# EAGLE library part LORA_RFM95_ADAPTER (library 111_LORA)
ESP8266 Adapter for ESP8266-03, ESP8266-04, ESP8266-07, ESP8266-08, ESP8266-12 and similar. (c) by Bartosz Batorek obi--wan@wp.pl
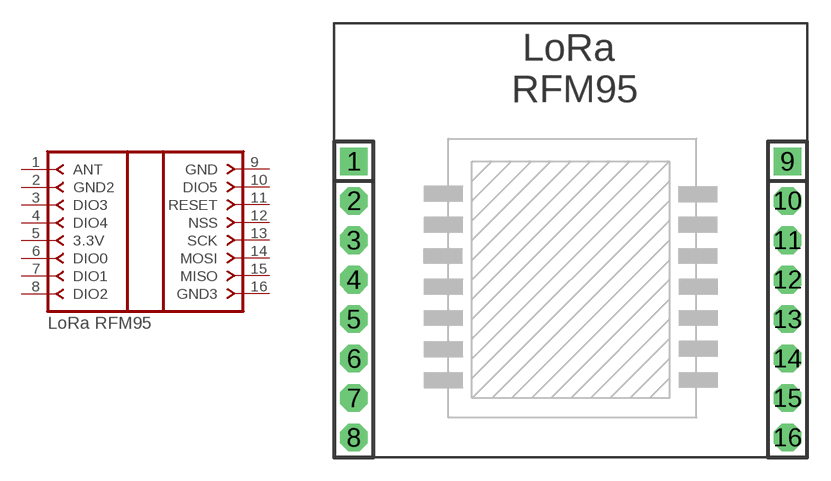
[diagram p0: symbol with the pads of LORA_RFM95_ADAPTER; footprint LORA_RFM95_ADAPTER]

Designator prefix ESP_

## LORA_RFM95_ADAPTERLORA_RFM95W  [LORA_RFM95_ADAPTER]
1  ANT  pas
2  GND2  pas
3  DIO3  pas
4  DIO4  pas
5  3.3V  pas
6  DIO0  pas
7  DIO1  pas
8  DIO2  pas
9  GND  pas
10  DIO5  pas
11  RESET  pas
12  NSS  pas
13  SCK  pas
14  MOSI  pas
15  MISO  pas
16  GND3  pas

## Footprint LORA_RFM95_ADAPTER (pad centres in mm)
ESP8266 Adapter SIP Header - 0.1", 32 mil drill for ESP8266-03, ESP8266-04, ESP8266-07, ESP8266-08, ESP8266-12 and similar. (c) by Bartosz Batorek obi--wan@wp.pl
drill 0.813 pad 1.778 square: 1 -13.97,8.89; 9 13.97,8.89
drill 0.813 pad 1.778 octagon: 2 -13.97,6.35; 3 -13.97,3.81; 4 -13.97,1.27; 5 -13.97,-1.27; 6 -13.97,-3.81; 7 -13.97,-6.35; 8 -13.97,-8.89; 10 13.97,6.35; 11 13.97,3.81; 12 13.97,1.27; 13 13.97,-1.27; 14 13.97,-3.81; 15 13.97,-6.35; 16 13.97,-8.89